# Altium schematic symbol library 694106301002.SchLib: 1 symbol
Pins are listed as number, name and electrical type; pins without a type are passive.

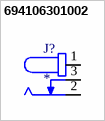
[diagram p0: symbol 694106301002]

## 694106301002
designator J?
DCPowerJack_THT_R/A_Plastic_CenterPin_ Ã˜2.0; MF: Wurth Electronics; MP: 694106301002; SnapEDA_Link: https://www.snapeda.com/parts/694106301002/Wurth+Electronics/view-part/?ref=snap; Package: None; Value: *; Check_prices: https://www.snapeda.com/parts/694106301002/Wurth+Electronics/view-part/?ref=eda
footprint 694106301002
pins: 1, 2, 3